# Altium schematic symbol library laihi.SchLib: 296 symbols (part 2 of 3)
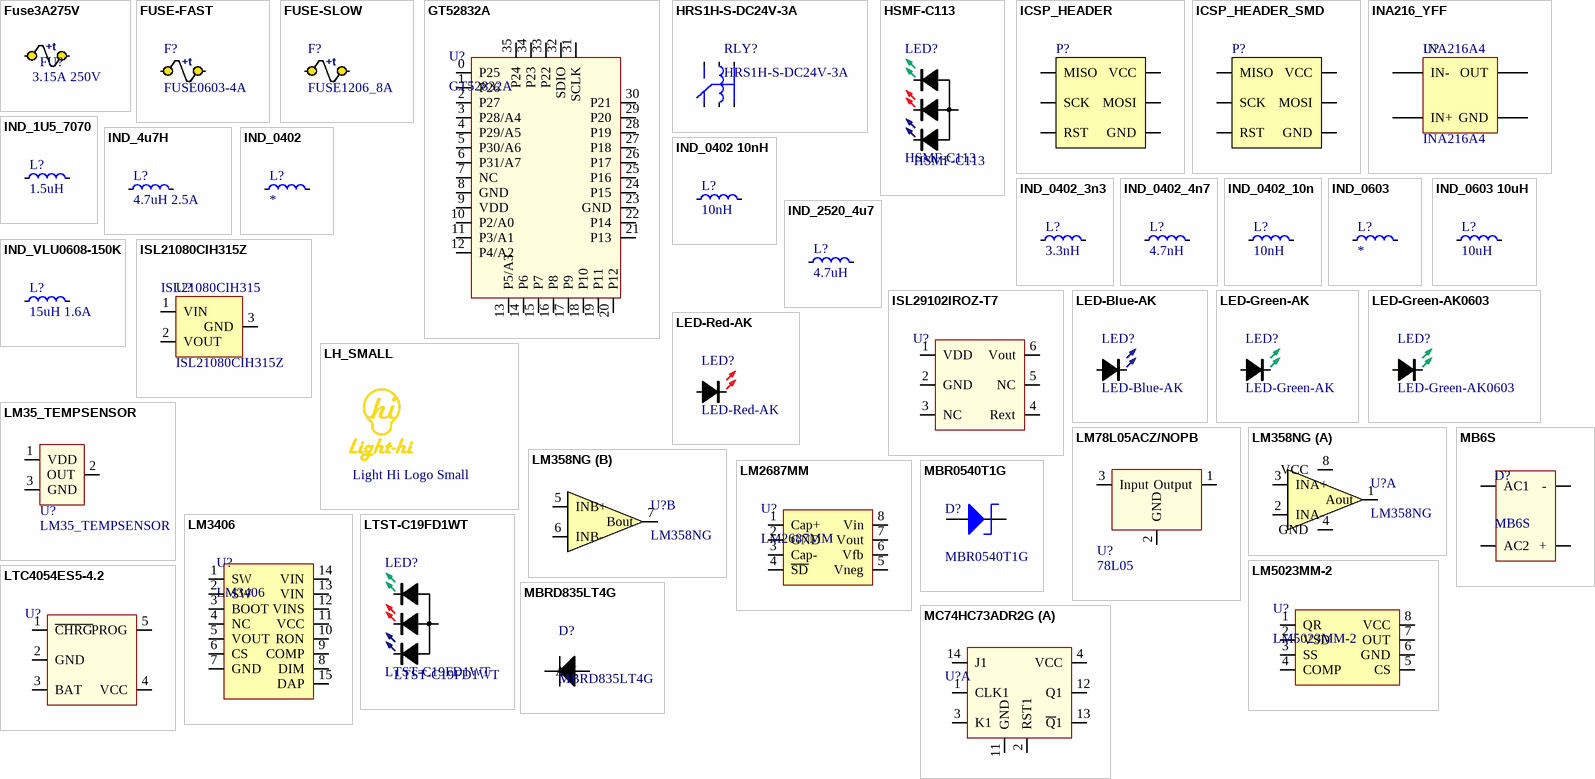
[diagram p8: symbols Fuse3A275V to MC74HC73ADR2G]

## IND_0603 10uH
designator L?, comment 10uH
Chip Ind 0603; Part Number: L0603-10祙ISHIDDEN=T; Manufacturer: Taiyo Yuden; Manufacturer Part Number: LBMF1608T100K; 2nd source part number: 178-6105; Note: LBMF1608T100K 10礖 80mA 0603; Artikkelnr Noca: 33029314; Datasheet: http://www.yuden.co.jp/ut/product/pdf/elb2_e.pdf; Footprint: 0603; LatestRevisionDate: 2011-12-06; Pin Count: 2; Publisher: Nordic Semiconductor; Published: 2010-02-24; Supplier: Digi-Key; Supplier part number: 587-1714-1-ND; 2nd source Supplier: Farnell; Value: 10uH
footprint 0603-STX (STX)
pins: 1, 2

## IND_2520_4u7
designator L?, comment 4.7uH
Chip Ind 252012 ,180mOhm, 750mA; Part Number: MPH252012S4R7MT; Manufacturer: Sunlord; Manufacturer Part Number: MPH252012S4R7MT; Footprint: 252012; Pin Count: 2; Note: 180mOhm, 750mA; Supplier: LC; Supplier_PN: C90256; Value: 4.7uH
footprint IND_252012 (Molded Inductor, 2-Leads, Body 2.50x2.10mm, IPC Medium Density)
pins: 1, 2

## IND_VLU0608-150K
designator L?, comment 15uH 1.6A
工字电感 6*8mm 75mOhm 1.6A; Manufacturer: FH; Manufacturer Part Number: VLU0608-150K; Part Number: *; Pin Count: 2; Note: *; Supplier: LC; Supplier part number: C72627; Value: 15uH 1.6A
footprint WE-HC4 (Inductor, Shielded Drum Core, Superflux, 1.5 μH, 11 A,  0.0078 ohm, SMD)
pins: 1, 2

## ISL21080CIH315Z
designator U?  Part Number: ISL21080CIH315
IC VREF SERIES 1.5V SOT23-3; Manufacturer: Intersil; Manufacturer No: ISL21080CIH315Z-TK; Rating: COM; Supplier: Digi-Key; Supplier_PN: ISL21080CIH315Z-TKCT-ND; ComponentLink1URL: #http://www.intersil.com/content/dam/Intersil/documents/fn69/fn6934.pdf#; PartType: SM; ROHS: True; Pin Count: 3; Component Kind: Standard
footprint SOT23-3 (STX)
3D model SOT23
pins: 1 VIN (power), 2 VOUT (power), 3 GND (power)

## ISL29102IROZ-T7
designator U?, comment ISL29102  (value not drawn)
Intersil Low Power Ambient Light-to-Voltage; Manufacturer No: ISL29102IROZ-T7; Value: ISL29102IROZ-T7; Manufacturer: Intersil; Pins: 6; Supplier: 深圳蓝伯特电子有限公司; Supplier_PN: ISL29102IROZ-T7; SuppliersPartNumber: ISL29102IROZ-T7
footprint ODFN-6
pins: 1 VDD, 2 GND, 3 NC, 4 Rext, 5 NC, 6 Vout

## LED-Blue-AK
designator LED?
OPTO LED Blue (Clear) 150mcd 470nm 120-deg Vf:3V2 If:20mA 2.3mmx0.8mm 0603; Manufacturer: Wurth Electronics Inc; Manufacturer No: 150060BS75000; Supplier: Digikey; Supplier_PN: 732-4966-1-ND; PartType: SM; Pin Count: 2
footprint 0603-LED (STX)
pins: A, K

## LED-Green-AK
designator LED?
OPTO LED GREEN (Clear) 45mcd 573nm 120-deg Vf:2V0 If:25mA 1mmx0.5mm VAOL-S4GT4 0402; Manufacturer: VCC Visual Communications; Notes: 2V; Part Number: VAOL-S4GT4; Manufacturer No: VAOL-S4GT4; Supplier: Digi-Key; Supplier_PN: VAOL-S4GT4CT-ND; PartType: SM; Pin Count: 2
footprint 0402-LED
3D model 0402-LED-GRN
pins: A, K

## LED-Green-AK0603
designator LED?
OPTO LED GREEN (Clear) 45mcd 573nm 120-deg Vf:2V0 If:25mA 1mmx0.5mm VAOL-S4GT4 0402; Manufacturer: VCC Visual Communications; Notes: 2V; Part Number: VAOL-S4GT4; Manufacturer No: VAOL-S4GT4; Supplier: Digi-Key; Supplier_PN: VAOL-S4GT4CT-ND; PartType: SM; Pin Count: 2
footprint 0603-LED (STX)
pins: A, K

## LED-Red-AK
designator LED?
OPTO LED Red (Clear) 180mcd 639nm 120-deg Vf:2V0 If:25mA 2.3mmx0.8mm 0603; Manufacturer: LiteON; Manufacturer No: LTST-C190KRKT; Supplier: Digikey; Supplier_PN: 160-1436-1-ND; PartType: SM; Pin Count: 2
footprint 0603-LED (STX)
pins: A, K

## LH_SMALL
designator LOGO?, comment Light Hi Logo Small  (no BOM)
LH_SMALL; Part Number: Light Hi Logo S; Manufacturer: *; Manufacturer Part Number: *; Datasheet: *; Value: Light Hi Logo Small; Note: *; Supplier: *; Supplier part number: *
footprint LOGO_LIGHTHI

## LM35_TEMPSENSOR
designator U?
Precision Centigrade Temperature Sensors; Manufacturer: TI; Manufacturer No: LM35AH; Pin Count: 3; Supplier: Digikey; Supplier_PN: LM35AH/NOPB-ND
footprint TO-46 (Metal Can; 3 Leads; Can Circle Dia. 5.6 mm; Lead Dia. 0.483 mm (max))
pins: 1 VDD, 2 OUT, 3 GND

## LM78L05ACZ/NOPB
designator U?, comment 78L05
78系列 5V 100mA 线性稳压电源 同LM78L05ACMX 直插; Manufacturer: TI; Manufacturer No: LM78L05ACZ/NOPB; Pin Count: 3; Supplier: LC; Supplier_PN: C95669
footprint TO-92 (Metal Can; 3 Leads; Can Circle Dia. 5.6 mm; Lead Dia. 0.483 mm (max))
pins: 1 Output, 2 GND, 3 Input

## LM358NG
designator U?
Single Supply 3V-32V Dual  Operational Amplifiers; Manufacturer: On Semiconductors; Note: Same as LM324; Manufacturer No: LM358NG; Pins: 8; Supplier: LC; Supplier_PN: C107620; SuppliersPartNumber: C107620
footprint PDIP-8 (PDIP-8 pins 2.54mm pitch)
part A pins: 1 Aout, 2 INA-, 3 INA+, 4 GND, 8 VCC
part B pins: 5 INB+, 6 INB-, 7 Bout

## LM2687MM
designator U?
LM2687 Low Noise Regulated Switched Capacitor Voltage Inverter; Manufacturer: Ti; Manufacturer No: LM2687MM; Supplier: taobao; Supplier_PN: https://detail.tmall.com/item.htm?id=524241036517; Pin Count: 8
footprint MSOP65P490X109-8N (MSOP, 8-Leads, Body 3.00x3.00mm, Pitch 0.65mm, IPC Medium Density)
pins: 1 Cap+, 2 GND, 3 Cap-, 4 ~{SD}, 5 Vneg, 6 Vfb, 7 Vout, 8 Vin

## LM3406
designator U?
LM3406 1.5-A, Constant Current, Buck Regulator for Driving High Power LEDs; Manufacturer No: LM3406HVMHX; Manufacturer: Ti; Supplier: LC; Supplier_PN: C11160; Pin Count: 15
footprint SOP127P600-8N (14-Lead Exposed Pad Plastic TSSOP Package)
pins: 1 SW, 2 SW, 3 BOOT, 4 NC, 5 VOUT, 6 CS, 7 GND, 8 DIM, 9 COMP, 10 RON, 11 VCC, 12 VINS, 13 VIN, 14 VIN, 15 DAP

## LM5023MM-2
designator U?
AC-DC Quasi-Resonant Current Mode PWM Controller; Manufacturer: Ti; Manufacturer No: LM5023MM-2; Supplier: taobao; Pin Count: 8
footprint MSOP65P490X109-8N (MSOP, 8-Leads, Body 3.00x3.00mm, Pitch 0.65mm, IPC Medium Density)
pins: 1 QR, 2 VSD, 3 SS, 4 COMP, 5 CS, 6 GND, 7 OUT, 8 VCC

## LTC4054ES5-4.2
designator U?  (value not drawn)
Standalone Linear  Li-Ion Battery Charger with  Thermal Regulation in ThinSOT; Manufacturer: LinearTechnology; Manufacturer No: LTC4054ES5-4.2; Note: Standalone Linear  Li-Ion Battery Charger with  Thermal Regulation in ThinSOT; Pins: 5; Supplier: Digikey; Supplier_PN: LTC4054LES5-4.2#TRPBFTR-ND; SuppliersPartNumber: LTC4054LES5-4.2#TRPBFTR-ND
footprint SOT23-5
pins: 1 ~{CHRG}, 2 GND, 3 BAT, 4 VCC, 5 PROG

## LTST-C19FD1WT
designator LED?
三色 LED TriColor RGB LED CHIP SMD; Manufacturer: Lite ON; Rating: IND; Manufacturer No: LTST-C19FD1WT; Supplier: Digi-Key; Supplier_PN: 160-2022-1-ND; PartType: SM; ROHS: True; Pin Count: 4; Part Number: LTST-C19FD1WT
footprint LTST-C19FD1WT (Lite-on tricolor LED)
3D model HSMF-C11X
pins: A, KB, KG, KR

## MB6S
designator D?
Bridge DIODE 600V  500mA 1V@0.4A; Manufacturer: MCC; Manufacturer No: MB6S; Supplier: LC; Supplier_PN: C2487; PartType: SM; Pin Count: 4; MaxRating: 600V
footprint MBS (BESOP, 4-Leads, Body 4.75x3.90mm, Pitch 2.55mm, IPC Medium Density)
pins: 1 AC1, 2 AC2, 3 +, 4 -

## MBR0540T1G
designator D?
Diode SOD−123 Power SMT 0.5 AMPERES, 40 VOLTS; Manufacturer: ON Semiconductor; MaxRating: 40V; Supplier: Digi-Key; Supplier_PN: MBR0540T1GOSCT-ND; Manufacturer No: MBR0540T1G
simulation model ZENER (Diode)
signal-integrity model D Zener
footprint SOD123-DIODE-Schottky (SODFL, 2-Leads, Body 1.70x3.71mm, IPC Medium Density)
pins: 1 A, 2 K

## MBRD835LT4G
designator D?
DIODE SCHOTTKY 35V 0.5V@8A; Manufacturer: On Semi; Part Number: MBRD835LT4G; Manufacturer No: MBRD835LT4G; Supplier: LC; Supplier_PN: C28423; PartType: SM; Pin Count: 3; MaxRating: 35V; SuppliersPartNumber: C28423
footprint DPAK-3N-L78M05 (D-PAK, 3-Pads, Body 6.2x6.6mm (max), IPC Medium Density)
pins: 1 A, 2 K, 3 A

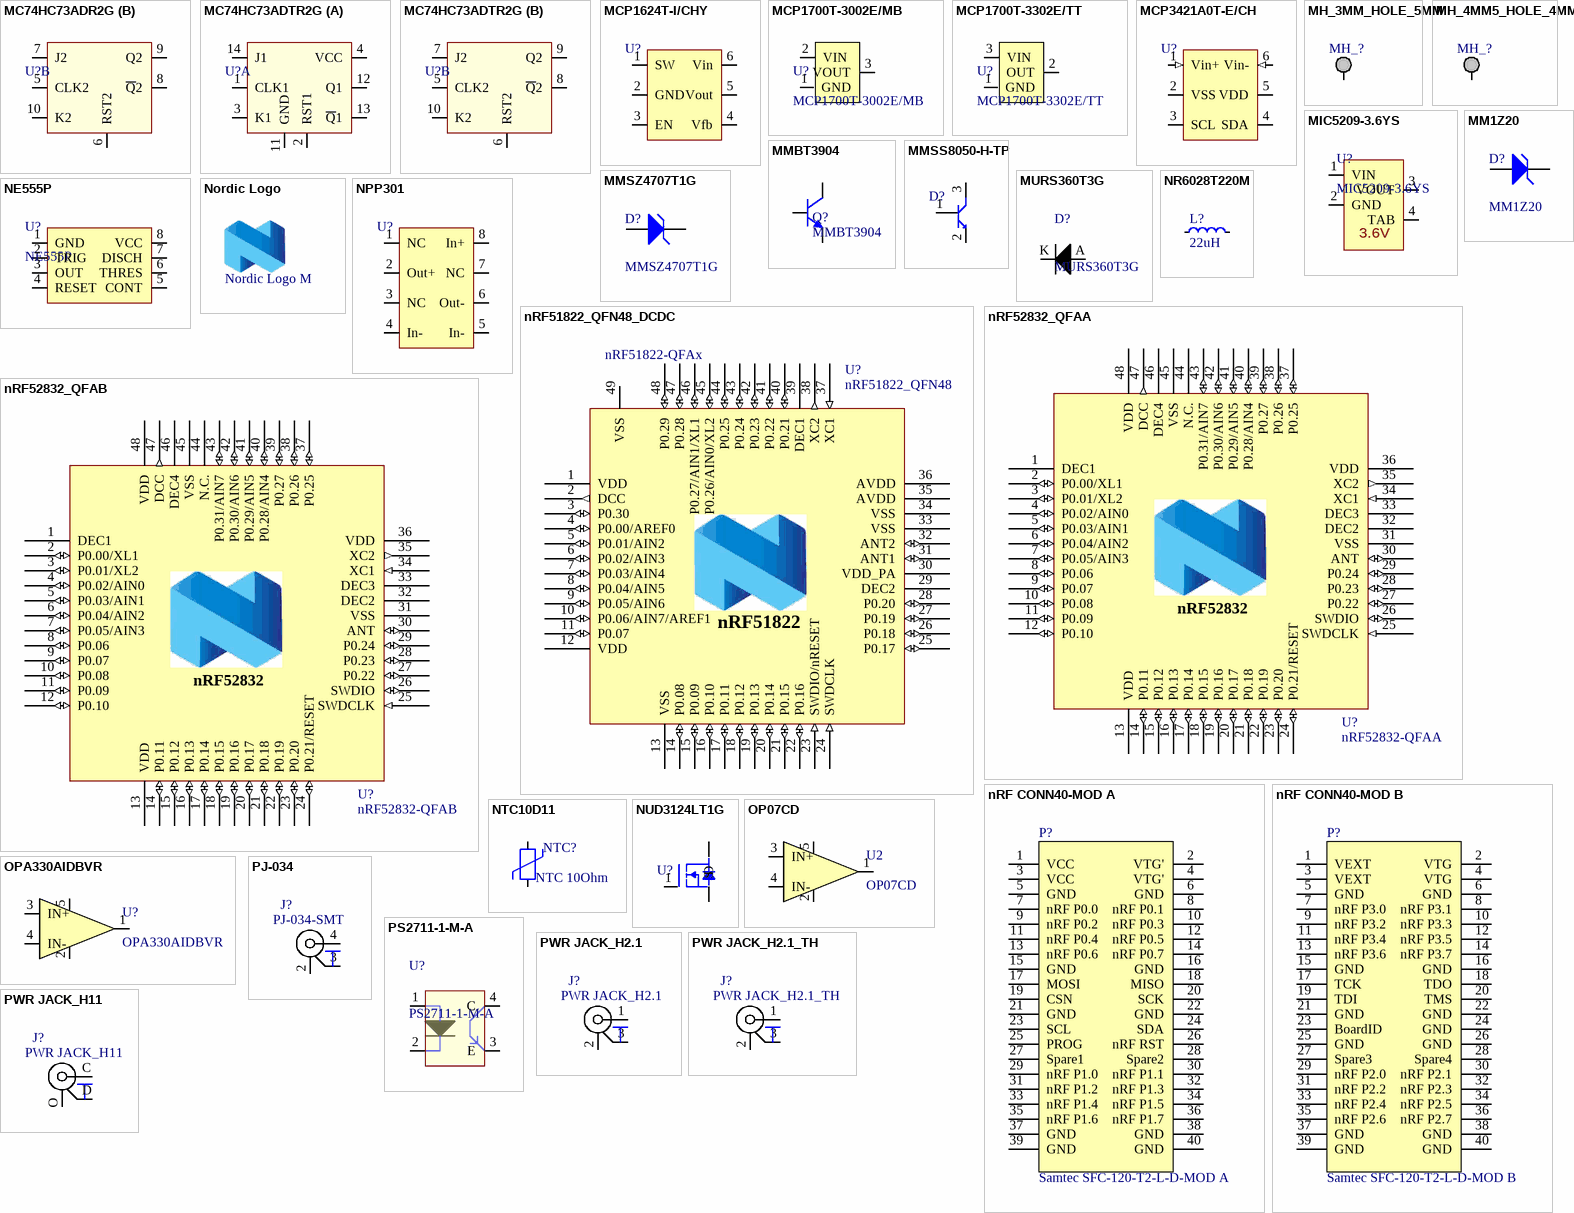
[diagram p4: symbols MC74HC73ADR2G to PWR JACK_H11]

## MC74HC73ADR2G
designator U?, comment MC74HC73A  (value not drawn)
Dual JK FlipFlop with Reset on Falling edge; Manufacturer: ON Semi; Manufacturer No: MC74HC73ADR2G; Note: Dual JK FlipFlop with Reset on Falling edge; Pins: 14; Supplier: LC; Supplier_PN: C90061; SuppliersPartNumber: C90061
footprint SOIC_14_127P600X135 (SOIC, 14-Leads, Body 8.65x3.90mm, Pitch 1.27mm, IPC Medium Density)
part A pins: 1 CLK1, 2 RST1, 3 K1, 4 VCC, 11 GND, 12 Q1, 13 ~{Q}1, 14 J1
part B pins: 5 CLK2, 6 RST2, 7 J2, 8 ~{Q}2, 9 Q2, 10 K2

## MC74HC73ADTR2G
designator U?  (value not drawn)
Dual JK FlipFlop with Reset on Falling edge; Manufacturer: ON Semi; Manufacturer No: MC74HC73ADTR2G; Note: Dual JK FlipFlop with Reset on Falling edge; Pins: 14; Supplier: LC; Supplier_PN: C90061; SuppliersPartNumber: C90061
footprint TSSOP14_65P640X120 (TSSOP, 14-Leads, Body 5.00x4.40mm, Pitch 0.65mm, IPC Medium Density)
part A pins: 1 CLK1, 2 RST1, 3 K1, 4 VCC, 11 GND, 12 Q1, 13 ~{Q}1, 14 J1
part B pins: 5 CLK2, 6 RST2, 7 J2, 8 ~{Q}2, 9 Q2, 10 K2

## MCP1624T-I/CHY
designator U?  (value not drawn)
3V to 5V Input Boost Regulator  for PIC® Microcontrollers; Manufacturer: Microchip; SuppliersPartNumber: C128443; Supplier: LC; Supplier_PN: C128443; Manufacturer No: MCP1624T-I/CHY
footprint SOT23-6 (TSOP, 6-Leads, Body 2.90x1.60mm, Pitch 0.95mm, IPC Medium Density)
pins: 1 SW, 2 GND, 3 EN (io), 4 Vfb, 5 Vout, 6 Vin

## MCP1700T-3002E/MB
designator U?
1.6uA Low Quiescent Current, 6Vin LDO 3.3V output; Manufacturer: MicroChip; Note: SoT-89 1.6uA Low Quenscent Current LDO; Manufacturer No: MCP1700T-3002E/MB; Pins: 3; Supplier: LC; Supplier_PN: C57883
footprint SOT89 (SOT89, 3-Leads, Body 4.50x2.45mm, Pitch 1.50mm, Lead Span 3.9mm, IPC Medium Density)
pins: 1 GND, 2 VIN, 3 VOUT

## MCP1700T-3302E/TT
designator U?
1.6uA Low Quiescent Current, 6Vin LDO 3.3V output; Manufacturer: MicroChip; Note: 1.6uA Low Quenscent Current LDO; Manufacturer No: MCP1700T-3302E/TT; Pins: 3; Supplier: LC; Supplier_PN: C39051
footprint SOT23-3 (STX)
pins: 1 GND, 2 OUT, 3 VIN

## MCP3421A0T-E/CH
designator U?  (value not drawn)
18-Bit Analog-to-Digital Converter  with I2C Interface and On-Board Reference; Manufacturer: Microchip; SuppliersPartNumber: C29454; Supplier: LC; Supplier_PN: C29454; Manufacturer No: MCP3421A0T-E/CH
footprint SOT23-6 (TSOP, 6-Leads, Body 2.90x1.60mm, Pitch 0.95mm, IPC Medium Density)
pins: 1 Vin+ (in), 2 VSS, 3 SCL (io), 4 SDA (io), 5 VDD, 6 Vin- (in)

## MH_3MM_HOLE_5MM
designator MH_?  (value not drawn)
PHANTOM Mounting Hole Annulus Dia_5mm Hole_3mm TH; Manufacturer No: 板自带; Manufacturer: 空; Note: 板自带，无需焊接; Part Number: MH_3MM_HOLE_5MM; PartType: PHANTOM; ROHS: True; Pin Count: 1; Supplier: 板自带
footprint MH_3MMHOLE_5M
3D model phantom_part
pins: 1

## MH_4MM5_HOLE_4MM
designator MH_?  (value not drawn)
PHANTOM Mounting Hole Annulus Dia_4.5mm Hole_4mm TH; Part Number: MH_2MM5_HOLE_2MM; Manufacturer No: 板自带，Phantom; Manufacturer: 板自带; Note: 无需焊接; PartType: PHANTOM; ROHS: True; Pin Count: 1
footprint MH_4MMHOLE_6M5
3D model phantom_part
pins: 1

## MIC5209-3.6YS
designator U?
IC REG LDO 3.6V 0.5A SOT223; Supplier_PN: 576-2371-ND
footprint SOT230P700X180-4N (SOT223, 4-Leads, Body 6.50x7.00mm (avg), Pitch 2.30mm, IPC Medium Density)
pins: 1 VIN, 2 GND, 3 VOUT, 4 TAB
text: 3.6V

## MM1Z20
designator D?
Zener Diode; Manufacturer: ST 先科; Value: 20V 0.5W; Manufacturer Part Number: MM1Z20; Supplier: LC; SuppliersPartNumber: C107583
simulation model ZENER (Diode)
signal-integrity model D Zener
footprint SOD123-DIODE-Schottky (SODFL, 2-Leads, Body 1.70x3.71mm, IPC Medium Density)
pins: 1 A, 2 K

## MMBT3904
designator Q?
NPN General Purpose Amplifier 2N3904; Supplier_PN: 568-4510-2-ND
footprint SOT23-3 (STX)
simulation model 2N3904 (NPN)
signal-integrity model 2N3904
pins: 1 B, 2 E, 3 C

## MMSS8050-H-TP
designator D?  (value not drawn)
Bipolar (BJT) Transistor NPN 25V 1.5A 100MHz 625mW Surface Mount SOT-23; Manufacturer: Micro Commercial; Manufacturer No: MMSS8050-H-TP; Note: Bipolar (BJT) Transistor NPN 25V 1.5A 100MHz 625mW Surface Mount SOT-23; Pins: 3; Supplier: LC; Supplier_PN: C78092
footprint SOT23-3 (STX)
pins: 1 G, 2 S, 3 D

## MMSZ4707T1G
designator D?
Zener Diode; Manufacturer: On Semiconduct; Manufacturer Part Number: MMSZ4707T1G; Supplier: LC; SuppliersPartNumber: C36797
simulation model ZENER (Diode)
signal-integrity model D Zener
footprint SOD123-DIODE-Schottky (SODFL, 2-Leads, Body 1.70x3.71mm, IPC Medium Density)
pins: 1 A, 2 K

## MURS360T3G
designator D?
DIODE ultra fast power rectifier 50ns 1V@3A 600V; Manufacturer: On Semi; Manufacturer No: MURS360T3G; Supplier: LC; Supplier_PN: C49304; PartType: SM; ROHS: True; Pin Count: 2; MaxRating: 600V
footprint SMC-DIODE
pins: A, K

## NE555P
designator U?
xx555 Precision Timers 4.5V to 16V; Manufacturer: Ti; Manufacturer No: NE555P; Supplier: LC; Supplier_PN: C46749; Pin Count: 8
footprint PDIP-8 (PDIP-8 pins 2.54mm pitch)
pins: 1 GND, 2 TRIG, 3 OUT, 4 RESET, 5 CONT, 6 THRES, 7 DISCH, 8 VCC

## Nordic Logo
designator LOGO?, comment Nordic Logo M  (no BOM)
Nordic Logo, medium size; Artikkelnr Noca: N.A.; Part Number: Nordic Logo M; Manufacturer: *; Manufacturer Part Number: *; Datasheet: *; Footprint: NORDIC_LOGO_M; LatestRevisionDate: 2010-02-18; Pin Count: 2; Publisher: Nordic Semiconductor; Published: 2010-02-18; Value: Nordic Logo M; Note: *; Supplier: *; Supplier part number: *; 2nd source Supplier: *; 2nd source part number: *
footprint NORDIC_LOGO_M

## NPP301
designator U?, comment NPP301-100/200/700  (value not drawn)
NovaSensor Surface Mount Pressure sensor absolute 100/200/700 kPa; Manufacturer: Amphenol Advanced Sensors; SuppliersPartNumber: 235-1287-ND; Supplier: Digi-key; Supplier_PN: 235-1287-ND; Manufacturer No: NPP301-100/200/700
footprint SOIC8_ATMEL_8S2_8S1 (SOIC, 8-Leads, Body 5.25x5.30mm, Pitch 1.27mm, IPC Medium Density)
pins: 1 NC, 2 Out+, 3 NC, 4 In-, 5 In-, 6 Out-, 7 NC, 8 In+

## NR6028T220M
designator L?, comment 22uH
IND SMD Power Inductors 22uH 1.3A; Manufacturer: Taiyo Yuden; Manufacturer Part Number: NR6028T220M; Pin Count: 2; Supplier: Digi-Key; Supplier part number: 587-2103-1-ND; Value: 22uH
footprint NR6028T220M (SMD power inductor NR series TAIYO YUDEN)
pins: 1, 2

## nRF51822_QFN48_DCDC
designator U?, comment nRF51822_QFN48  value nRF51822-QFAx
IC SOC 2.4GHZ 256K FLASH 48QFN Multi-protocol Bluetooth Low Energy and 2.4GHz proprietary SoC; Part Number: NRF51822-QFAA-R7; Manufacturer: Nordic Semiconductor ASA; Note: nRF51822 - QFN48 6x6 0.4mm pitch; Datasheet: *; Footprint: QFN-48; Pin Count: 48; Publisher: Nordic Semiconductor; Supplier: Digi-Key; Manufacturer No: NRF51822-QFAA-R7; Supplier_PN: 1490-1031-1-ND; PartType: SM
footprint QFN40P600X600X90-48N (QFN, 48-Leads, Body 6,0x6,0mm (max), Pitch 0,40mm, IPC Medium Density)
pins: 1 VDD (power), 2 DCC (out), 3 P0.30 (io), 4 P0.00/AREF0 (io), 5 P0.01/AIN2 (io), 6 P0.02/AIN3 (io), 7 P0.03/AIN4 (io), 8 P0.04/AIN5 (io), 9 P0.05/AIN6 (io), 10 P0.06/AIN7/AREF1 (io), 11 P0.07 (io), 12 VDD (power), 13 VSS (power), 14 P0.08 (io), 15 P0.09 (io), 16 P0.10 (io), 17 P0.11 (io), 18 P0.12 (io), 19 P0.13 (io), 20 P0.14 (io), 21 P0.15 (io), 22 P0.16 (io), 23 SWDIO/nRESET (in), 24 SWDCLK (in), 25 P0.17 (io), 26 P0.18 (io), 27 P0.19 (io), 28 P0.20 (io), 29 DEC2 (power), 30 VDD_PA (power), 31 ANT1 (io), 32 ANT2 (io), 33 VSS (power), 34 VSS (power), 35 AVDD (power), 36 AVDD (power), 37 XC1 (in), 38 XC2 (out), 39 DEC1 (power), 40 P0.21 (io), 41 P0.22 (io), 42 P0.23 (io), 43 P0.24 (io), 44 P0.25 (io), 45 P0.26/AIN0/XL2 (io), 46 P0.27/AIN1/XL1 (io), 47 P0.28 (io), 48 P0.29 (io), 49 (power) hidden to GND, 49 VSS
text: nRF51822

## nRF52832_QFAA
designator U?, comment nRF52832-QFAA
Multi-protocol Bluetooth Low Energy, ANT and 2.4GHz proprietary system-on-chip; Manufacturer: Nordic Semiconductor; Part Number: nRF52832-QFAA; Manufacturer No: nRF52832-QFAA; Pin Count: 48; Publisher: Nordic Semiconductor; Published: 2014-11-26; Value: nRF52832-QFAA; Note: *; Supplier: Digikey; Supplier_PN: 1490-1052-2-ND; Footprint: QFN-48
footprint QFN40P600X600X90-48N
pins: 1 DEC1 (power), 2 P0.00/XL1 (io), 3 P0.01/XL2 (io), 4 P0.02/AIN0 (io), 5 P0.03/AIN1 (io), 6 P0.04/AIN2 (io), 7 P0.05/AIN3 (io), 8 P0.06 (io), 9 P0.07 (io), 10 P0.08 (io), 11 P0.09 (io), 12 P0.10 (io), 13 VDD (power), 14 P0.11 (io), 15 P0.12 (io), 16 P0.13 (io), 17 P0.14 (io), 18 P0.15 (io), 19 P0.16 (io), 20 P0.17 (io), 21 P0.18 (io), 22 P0.19 (io), 23 P0.20 (io), 24 P0.21/RESET (io), 25 SWDCLK (in), 26 SWDIO (io), 27 P0.22 (io), 28 P0.23 (io), 29 P0.24 (io), 30 ANT (io), 31 VSS (power), 32 DEC2 (power), 33 DEC3 (power), 34 XC1 (in), 35 XC2 (out), 36 VDD (power), 37 P0.25 (io), 38 P0.26 (io), 39 P0.27 (io), 40 P0.28/AIN4 (io), 41 P0.29/AIN5 (io), 42 P0.30/AIN6 (io), 43 P0.31/AIN7 (io), 44 N.C. (power), 45 VSS (power), 46 DEC4 (power), 47 DCC (out), 48 VDD (power), 49 GND (power) hidden to GND
text: nRF52832

## nRF52832_QFAB
designator U?, comment nRF52832-QFAB
Multi-protocol Bluetooth Low Energy, ANT and 2.4GHz proprietary system-on-chip; Manufacturer: Nordic Semiconductor; Part Number: nRF52832-QFAB; Manufacturer No: nRF52832-QFAB; LatestRevisionDate: 2016-11-24; Pin Count: 48; Publisher: Nordic Semiconductor; Published: 2016-11-24; Value: nRF52832-QFAB; Note: *; Supplier: Nordic Semiconductor; Supplier_PN: 1490-1055-2-ND; Footprint: QFN-48
footprint QFN40P600X600X90-48N (QFN, 48-Leads, Body 6,0x6,0mm (max), Pitch 0,40mm, IPC Medium Density)
pins: 1 DEC1 (power), 2 P0.00/XL1 (io), 3 P0.01/XL2 (io), 4 P0.02/AIN0 (io), 5 P0.03/AIN1 (io), 6 P0.04/AIN2 (io), 7 P0.05/AIN3 (io), 8 P0.06 (io), 9 P0.07 (io), 10 P0.08 (io), 11 P0.09 (io), 12 P0.10 (io), 13 VDD (power), 14 P0.11 (io), 15 P0.12 (io), 16 P0.13 (io), 17 P0.14 (io), 18 P0.15 (io), 19 P0.16 (io), 20 P0.17 (io), 21 P0.18 (io), 22 P0.19 (io), 23 P0.20 (io), 24 P0.21/RESET (io), 25 SWDCLK (in), 26 SWDIO (io), 27 P0.22 (io), 28 P0.23 (io), 29 P0.24 (io), 30 ANT (io), 31 VSS (power), 32 DEC2 (power), 33 DEC3 (power), 34 XC1 (in), 35 XC2 (out), 36 VDD (power), 37 P0.25 (io), 38 P0.26 (io), 39 P0.27 (io), 40 P0.28/AIN4 (io), 41 P0.29/AIN5 (io), 42 P0.30/AIN6 (io), 43 P0.31/AIN7 (io), 44 N.C. (power), 45 VSS (power), 46 DEC4 (power), 47 DCC (out), 48 VDD (power), 49 GND (power) hidden to GND
text: nRF52832

## nRF CONN40-MOD A
designator P?, comment Samtec SFC-120-T2-L-D-MOD A
1.27mm Pitch DIL Vertical SMT Socket Assembly, location pegs, double polarised, gold, 20+20-way; Note: Mates with nRF6310; Artikkelnr Noca: 55019100; Value: Samtec SFC-120-T2-L-D-MOD A; Part Number: Samtec SFC-120-T2-L-D-MOD A; Manufacturer: Samtec; Manufacturer Part Number: SFC-120-T2-L-D; Datasheet: http://www.samtec.com/documents/webfiles/cpdf/Sfc-mkt.pdf; Footprint: Samtec SFC-120-T2-L-D; LatestRevisionDate: 2010-02-26; Publisher: Nordic Semiconductor; Published: 2010-02-26; Supplier: Farnell; Supplier part number: 176-3459; 2nd source Supplier: *; 2nd source part number: *
footprint Samtec SFC-120-T2-L-D
pins: 1 VCC, 2 VTG', 3 VCC, 4 VTG', 5 GND, 6 GND, 7 nRF P0.0, 8 nRF P0.1, 9 nRF P0.2, 10 nRF P0.3, 11 nRF P0.4, 12 nRF P0.5, 13 nRF P0.6, 14 nRF P0.7, 15 GND, 16 GND, 17 MOSI, 18 MISO, 19 CSN, 20 SCK, 21 GND, 22 GND, 23 SCL, 24 SDA, 25 PROG, 26 nRF RST, 27 Spare1, 28 Spare2, 29 nRF P1.0, 30 nRF P1.1, 31 nRF P1.2, 32 nRF P1.3, 33 nRF P1.4, 34 nRF P1.5, 35 nRF P1.6, 36 nRF P1.7, 37 GND, 38 GND, 39 GND, 40 GND

## nRF CONN40-MOD B
designator P?, comment Samtec SFC-120-T2-L-D-MOD B
1.27mm Pitch DIL Vertical SMT Socket Assembly, location pegs, double polarised, gold, 20+20-way; Note: Mates with nRF6310; Artikkelnr Noca: 55019100; Value: Samtec SFC-120-T2-L-D-MOD B; Part Number: Samtec SFC-120-T2-L-D-MOD B; Manufacturer: Samtec; Manufacturer Part Number: SFC-120-T2-L-D; Datasheet: http://www.samtec.com/documents/webfiles/cpdf/Sfc-mkt.pdf; Footprint: Samtec SFC-120-T2-L-D; LatestRevisionDate: 2010-02-26; Publisher: Nordic Semiconductor; Published: 2010-02-26; Supplier: Farnell; Supplier part number: 176-3459; 2nd source Supplier: *; 2nd source part number: *
footprint Samtec SFC-120-T2-L-D
pins: 1 VEXT, 2 VTG, 3 VEXT, 4 VTG, 5 GND, 6 GND, 7 nRF P3.0, 8 nRF P3.1, 9 nRF P3.2, 10 nRF P3.3, 11 nRF P3.4, 12 nRF P3.5, 13 nRF P3.6, 14 nRF P3.7, 15 GND, 16 GND, 17 TCK, 18 TDO, 19 TDI, 20 TMS, 21 GND, 22 GND, 23 BoardID, 24 GND, 25 GND, 26 GND, 27 Spare3, 28 Spare4, 29 nRF P2.0, 30 nRF P2.1, 31 nRF P2.2, 32 nRF P2.3, 33 nRF P2.4, 34 nRF P2.5, 35 nRF P2.6, 36 nRF P2.7, 37 GND, 38 GND, 39 GND, 40 GND

## NTC10D11
designator NTC?  value NTC 10Ohm  (hidden comment: NTC10D11)
NTC电阻 10Ohm 3A; Part Number: C72682; Manufacturer: LC; MaxRating: 240Vac; Supplier: LC; Supplier_PN: C72682; Pin Count: 2; Manufacturer No: C72682; PartType: TH
footprint NTC10D11 (NTC resistor 13mm x 7.5mm 3A)
pins: 1, 2

## NUD3124LT1G
designator U?  (value not drawn)
Automotive Inductive Load  Driver; Manufacturer: ONsemi; Manufacturer No: NUD3124LT1G; Pins: 3; Supplier: LC; Supplier_PN: C85758
footprint SOT23-3 (STX)
pins: 1 G, 2 S, 3 D

## OP07CD
designator U2
通用运放/OP07CD; Manufacturer: TI; Manufacturer No: OPA330AIDBVR; Note: Unity gain stable; Pins: 5; Supplier: LC; Supplier_PN: C354130; SuppliersPartNumber: C354130; ComponentLink1URL: https://item.szlcsc.com/329833.html
footprint SO8-STX
pins: 1, 2, 3 IN+, 4 IN-, 5

## OPA330AIDBVR
designator U?
OpAmp, Zero Drift, 1.8V to 5.5V supply 35uA Iq, 1.1uVpp noise, RR output; Manufacturer: TI; Note: Unity gain stable; Manufacturer No: OPA330AIDBVR; Pins: 5; Supplier: LC; Supplier_PN: C38649; SuppliersPartNumber: C38649
footprint SOT23-5
pins: 1, 2, 3 IN+, 4 IN-, 5

## PJ-034
designator J?, comment PJ-034-SMT
I/F POWER CONN PWR JACK 2.5D CENTRE PIN RA PCB MTG TH; Part Number: PJ-034-SMT-TR; Manufacturer: CUI inc; Rating: 16V; Supplier: Digikey; Supplier_PN: PJ-034-SMT-TR; ROHS: True; Pin Count: 3; Manufacturer No: PJ-034-SMT-TR
footprint PJ-034-SMT (PWR JACK 24V SMT 0.65mm center pin 2.8mm hole)
pins: 2, 3, 4

## PS2711-1-M-A
designator U?
OPTOISOLATOR 3.75KV TRANS 4SMD; Manufacturer: CEL; MaxRating: 3750V; Part Number: PS2711-1-M-A; Manufacturer No: PS2711-1-M-A; Supplier: taobao; PartType: SM; Pin Count: 2
footprint 4-SOP optocoupler (NEC2711)
3D model SMA-DIODE
pins: 1 A, 2 K, 3 E, 4 C

## PWR JACK_H2.1
designator J?
I/F POWER CONN PWR JACK 2.5D CENTRE PIN RA PCB MTG TH; Manufacturer: CUI inc; Rating: 5A; Qualified: False; Part Number: PWR JACK_H2.1; Supplier: Digikey; Supplier_PN: CP-002AHPJCT-ND; Obsolete: False; ROHS: False; Pin Count: 3
footprint PJ-002AH-SMT (PWR JACK 5A 16V SMT)
pins: 1, 2, 3

## PWR JACK_H2.1_TH
designator J?
Through Hole POWER CONN PWR JACK 2.5D CENTRE PIN RA PCB MTG TH; Manufacturer: CUI inc; Rating: 5A; Qualified: False; Part Number: PWR JACK_H2.1; Supplier: Digikey; Obsolete: False; ROHS: False; Pin Count: 3; Supplier_PN: CP-012A-ND
footprint PJ-012A-TH (PWR JACK 5A 16V Through Hole)
pins: 1, 2, 3

## PWR JACK_H11
designator J?
POWER CONN PWR JACK 5D 2.0mm CENTRE TH; Part Number: PWR JACK_H2.1; Manufacturer: CUI inc; Rating: 5A; Qualified: False; Supplier: Digikey; Supplier_PN: CP-002AHPJCT-ND; Obsolete: False; ROHS: False; Pin Count: 3
footprint Jack-2mmCore-5mm (5mm outer 2mm inner core jack)
pins: C 1, D 3, O 2

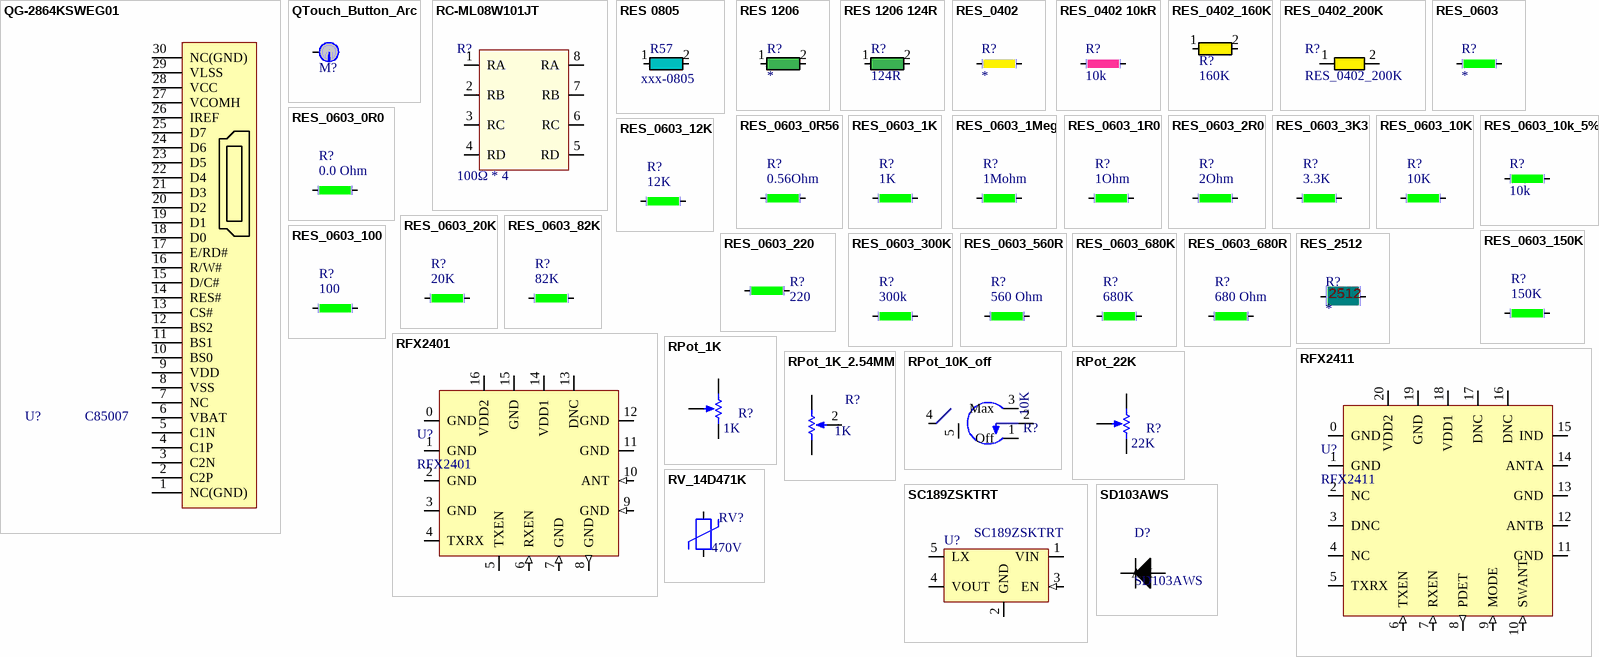
[diagram p5: symbols QG-2864KSWEG01 to SD103AWS]

## QG-2864KSWEG01
designator U?, comment C85007
OLED显示模块/0.96” 128x64 150cd/m2; Manufacturer: LC; Part Number: C85007; Supplier: LC; Supplier_PN: C85007; Pin Count: 30; Manufacturer No: C85007; PartType: SM
footprint OLED-QG-2864 (QG-2864KSWEG01 AllVision 30pin connection)
pins: 1 NC(GND), 2 C2P, 3 C2N, 4 C1P, 5 C1N, 6 VBAT, 7 NC, 8 VSS, 9 VDD, 10 BS0, 11 BS1, 12 BS2, 13 CS#, 14 RES#, 15 D/C#, 16 R/W#, 17 E/RD#, 18 D0, 19 D1, 20 D2, 21 D3, 22 D4, 23 D5, 24 D6, 25 D7, 26 IREF, 27 VCOMH, 28 VCC, 29 VLSS, 30 NC(GND)

## QTouch_Button_Arc
designator M?, comment TBtn  (value not drawn)  (net tie, no BOM)
Touch Button; Part Number: Touch BUtton; Manufacturer: N/A; Manufacturer No: N/A; Pin Count: 1; Value: TBtn; Supplier: PCB; Supplier_PN: N/A
footprint TouchButtonArc (Touch button on the edge)
pins: 1

## RC-ML08W101JT
designator R?  value 100Ω * 4  (hidden comment: RC-ML08W101JT)
100Ω *4 (103) ±5% 编带 0603排阻; Manufacturer: FH; Manufacturer No: RC-ML08W101JT; Note: 100Ω *4 (103) ±5% 编带 0603排阻; Pins: 8; Supplier: LC; Supplier_PN: C79203; SuppliersPartNumber: C79203
footprint ARRAY0603-80P319X159-8N (Chip Array, Flat, 8-Leads, Pitch 0.80mm,  Body 3.20x1.60mm,  IPC Medium Density)
pins: 1 RA, 2 RB, 3 RC, 4 RD, 5 RD, 6 RC, 7 RB, 8 RA

## RES 0805
designator R57, comment xxx-0805
RES Place Holder Phantom Resistor125mW 0805; Part Number: PLACE_HOLD_RES-0805; HRG_PN: 0; Rating: IND; Audit_Details: CLIVE BOYD  SEP-2002; Qualified: False; ComponentLink1Description: Website; ComponentLink2Description: Approvals; PartType: SM; Verified: True; Obsolete: False; ROHS: True; Critical: False; Pin Count: 2; Component Kind: Standard; Component Type: Standard
simulation model RES 0805
signal-integrity model RES 0805
3D model 0805-RES (PCB3D Model)
footprint 0805-STX
3D model RES 0805
pins: 1, 2

## RES 1206
designator R?
RES ?R 250mW  0.1% 25ppm/K; Manufacturer: SMD Components; Rating: IND; MaxRating: 70mW; Part Number: *; Supplier: *; PartType: SM; ROHS: True; Pin Count: 2; Component Kind: Standard; Value: *
signal-integrity model RES 1206
simulation model RES 1206
3D model 1206-RES (PCB3D Model)
footprint 1206-STX (STX)
pins: 1, 2

## RES 1206 124R
designator R?, comment 124R
RES ?R 250mW  0.1% 25ppm/K; Part Number: 180R 0.1% MELF_1206; Manufacturer: SMD Components; Rating: IND; MaxRating: 70mW; Supplier: Digi-Key; Supplier_PN: P124BCCT-ND; PartType: SM; ROHS: True; Pin Count: 2; Component Kind: Standard; Supplier 1: Digi-Key; Supplier Part Number 1: P124BCCT-ND; Value: 124R
signal-integrity model RES 1206
simulation model RES 1206
3D model 1206-RES (PCB3D Model)
footprint 1206-STX (STX)
pins: 1, 2

## RES_0402
designator R?
Resistor, ?%, 0.063W; Note: Chip Res 1%; Manufacturer: *; Manufacturer Part Number: *; Footprint: 0402; Pin Count: 2; Supplier: *; Supplier part number: *; 2nd source Supplier: *; 2nd source part number: *; Value: *
footprint 0402-STX
pins: 1, 2

## RES_0402 10kR
designator R?, comment 10k
Resistor, 0402, 10k; Part Number: R0402-10k; Note: Chip Res 1%; Manufacturer: *; Manufacturer Part Number: *; Datasheet: *; Footprint: 0402; Pin Count: 2; Publisher: Nordic Semiconductor; Supplier: Digi-key; Supplier_PN: 541-10.0KLTR-ND; Value: 10k
footprint 0402-STX
pins: 1, 2

## RES_0402_160K
designator R?, comment 160K
RES 160k 1% 100PPM 42mW 0402; Part Number: 160K_0402; Manufacturer: Panasonic; Manufacturer No: ERJ-2RKF1603X; MaxRating: 0.1W; Supplier: Digikey; Supplier_PN: P160KLCT-ND; PartType: SM; Pin Count: 2; Value: 160K
footprint 0402-STX
3D model 0402-RES
pins: 1, 2

## RES_0402_200K
designator R?
贴片电阻; ComponentLink1Description: 供应商链接; ComponentLink1URL: http://www.szlcsc.com/product/details_26507.html; Package: 0402; Supplier: LC; SuppliersPartNumber: C25764
footprint 0402_R
pins: 1, 2

## RES_0603
designator R?
Resistor, ?%, 0.063W; Note: Chip Res 1%; Manufacturer: *; Manufacturer Part Number: *; Footprint: 0603; Pin Count: 2; Supplier: *; Supplier part number: *; 2nd source Supplier: *; 2nd source part number: *; Value: *
footprint 0603-STX (STX)
pins: 1, 2

## RES_0603_0R0
designator R?, comment 0.0 Ohm
RES SMD 0.0 OHM 1% 1/10W 0603; Manufacturer: Panasonic Electronic Components; Manufacturer No: ERJ-3GEY0R00V; Note: Chip Res 1%; Footprint: 0603; Pin Count: 2; Supplier: Digi-Key; Value: 0.0 Ohm; Supplier_PN: P0.0GTR-ND
footprint 0603-STX (STX)
pins: 1, 2

## RES_0603_0R56
designator R?, comment 0.56Ohm
RES SMD 0.56 OHM 1% 1/10W 0603; Manufacturer: Panasonic Electronic Components; Manufacturer No: ERJ-3RQFR56V; Note: Chip Res 1%; Footprint: 0603; Pin Count: 2; Supplier: Digi-Key; Value: 0.56Ohm; Supplier_PN: P.56AJCT-ND
footprint 0603-STX (STX)
pins: 1, 2

## RES_0603_1K
designator R?, comment 1K
Resistor, 1%, 0.1W, 1K; Manufacturer: Panasonic; Manufacturer No: ERJ-3EKF1001V; Note: Chip Res 1%; Footprint: 0603; Pin Count: 2; Supplier: DigiKey; Value: 1K; Supplier_PN: P1.00KHCT-ND
footprint 0603-STX (STX)
pins: 1, 2

## RES_0603_1Meg
designator R?, comment 1Mohm
Resistor, 1%, 0.1W, 1MOhm; Manufacturer: Yageo; Manufacturer No: AF0603FR-071ML; Note: Chip Res 1%; Footprint: 0603; Pin Count: 2; Supplier: LC; Value: 1Mohm; Supplier_PN: C144090
footprint 0603-STX (STX)
pins: 1, 2

## RES_0603_1R0
designator R?, comment 1Ohm
RES SMD 1 OHM 1% 1/10W 0603; Manufacturer: Panasonic Electronic Components; Manufacturer No: ERJ-3RQF1R0V; Note: Chip Res 1%; Footprint: 0603; Pin Count: 2; Supplier: Digi-Key; Value: 1Ohm; Supplier_PN: P1.0AJCT-ND
footprint 0603-STX (STX)
pins: 1, 2

## RES_0603_2R0
designator R?, comment 2Ohm
RES SMD 2OHM 1% 1/10W 0603; Manufacturer: Panasonic Electronic Components; Manufacturer No: ERJ-3GEYJ2R0V; Note: Chip Res 5%; Footprint: 0603; Pin Count: 2; Supplier: Digi-Key; Value: 2Ohm; Supplier_PN: P2.0GCT-ND
footprint 0603-STX (STX)
pins: 1, 2

## RES_0603_3K3
designator R?, comment 3.3K
Resistor, 1%, 0.1W, 3.3K; Manufacturer: Panasonic; Manufacturer No: ERJ-3EKF3301V; Note: Chip Res 1%; Footprint: 0603; Pin Count: 2; Supplier: DigiKey; Value: 3.3K; Supplier_PN: P3.30KHCT-ND
footprint 0603-STX (STX)
pins: 1, 2

## RES_0603_10K
designator R?, comment 10K
Resistor, 1%, 0.1W, 10K; Manufacturer: Panasonic; Manufacturer No: ERJ-3EKF1002V; Note: Chip Res 1%; Footprint: 0603; Pin Count: 2; Supplier: DigiKey; Value: 10K; Supplier_PN: P10.0KHCT-ND
footprint 0603-STX (STX)
pins: 1, 2

## RES_0603_10k_5%
designator R?, comment 10k
Resistor,5%, 10k, 0603; Part Number: RS-03K103JT; Manufacturer: FH; Note: Chip Res 5%; Manufacturer Part Number: RS-03K103JT; Footprint: 0603; Pin Count: 2; Value: 10k; Supplier_PN: RS-03K103JT; Supplier: LC
footprint 0603-STX (STX)
pins: 1, 2

## RES_0603_12K
designator R?, comment 12K
Resistor, 1%, 0.1W, 12K; Manufacturer: Panasonic; Manufacturer No: ERJ-3EKF1202V; Note: Chip Res 1%; Footprint: 0603; Pin Count: 2; Supplier: DigiKey; Value: 12K; Supplier_PN: P12.0KHCT-ND
footprint 0603-STX (STX)
pins: 1, 2

## RES_0603_20K
designator R?, comment 20K
Resistor, 1%, 0.1W, 20K; Manufacturer: Panasonic; Manufacturer No: ERJ-3EKF2002V; Note: Chip Res 1%; Footprint: 0603; Pin Count: 2; Supplier: DigiKey; Value: 20K; Supplier_PN: P20.0KHCT-ND
footprint 0603-STX (STX)
pins: 1, 2

## RES_0603_82K
designator R?, comment 82K
Resistor, 1%, 0.1W; Manufacturer: Panasonic; Manufacturer No: ERJ-3EKF8202V; Note: Chip Res 1%; Footprint: 0603; Pin Count: 2; Supplier: DigiKey; Value: 82K; Supplier_PN: P82.0KHCT-ND
footprint 0603-STX (STX)
pins: 1, 2

## RES_0603_100
designator R?, comment 100
Resistor, 1%, 0.1W, 100; Manufacturer: Panasonic; Manufacturer No: ERJ-3EKF1000V; Note: Chip Res 1%; Footprint: 0603; Pin Count: 2; Supplier: DigiKey; Value: 100; Supplier_PN: P100HCT-ND
footprint 0603-STX (STX)
pins: 1, 2

## RES_0603_150K
designator R?, comment 150K
Resistor, 1%, 0.1W, 150K; Manufacturer: Panasonic; Manufacturer No: ERJ-3EKF1503V; Note: Chip Res 1%; Footprint: 0603; Pin Count: 2; Supplier: DigiKey; Value: 150K; Supplier_PN: P150KHCT-ND
footprint 0603-STX (STX)
pins: 1, 2

## RES_0603_220
designator R?, comment 220
Resistor, 1%, 0.1W; Manufacturer: Panasonic; Manufacturer No: ERJ-3EKF2200V; Note: Chip Res 1%; Footprint: 0603; Pin Count: 2; Supplier: DigiKey; Value: 220; Supplier_PN: P220HCT-ND
footprint 0603-STX (STX)
pins: 1, 2

## RES_0603_300K
designator R?, comment 300k
Resistor, 1%, 0.1W, 300K; Manufacturer: Yageo; Manufacturer No: RC0603FR-07300KL; Note: Chip Res 1%; Footprint: 0603; Pin Count: 2; Supplier: LC; Value: 300k; Supplier_PN: C114667
footprint 0603-STX (STX)
pins: 1, 2

## RES_0603_560R
designator R?, comment 560 Ohm
RES SMD 560 OHM 1% 1/10W 0603; Manufacturer: Panasonic Electronic Components; Manufacturer No: ERJ-3EKF5600V; Note: Chip Res 1%; Footprint: 0603; Pin Count: 2; Supplier: Digi-Key; Value: 560 Ohm; Supplier_PN: P560HCT-ND
footprint 0603-STX (STX)
pins: 1, 2

## RES_0603_680K
designator R?, comment 680K
Resistor, 1%, 0.1W, 680K; Manufacturer: Panasonic; Manufacturer No: ERJ-3EKF6803V; Note: Chip Res 1%; Footprint: 0603; Pin Count: 2; Supplier: DigiKey; Value: 680K; Supplier_PN: P680KHCT-ND
footprint 0603-STX (STX)
pins: 1, 2

## RES_0603_680R
designator R?, comment 680 Ohm
RES SMD 680 OHM 1% 1/10W 0603; Manufacturer: Panasonic Electronic Components; Manufacturer No: ERJ-3EKF6800V; Note: Chip Res 1%; Footprint: 0603; Pin Count: 2; Supplier: Digi-Key; Value: 680 Ohm; Supplier_PN: P680HCT-ND
footprint 0603-STX (STX)
pins: 1, 2

## RES_2512
designator R?
Resistor, 5%, 1W; Note: Chip Res 5%; Manufacturer: *; Manufacturer Part Number: *; Footprint: 2512; Pin Count: 2; Supplier: *; Supplier part number: *; 2nd source Supplier: *; 2nd source part number: *; Value: *
footprint 2512-RES (Chip Resistor, 2-Leads, Body 6.35x3.20mm, IPC Medium Density)
pins: 1, 2

## RFX2401
designator U?
RFX2401: 2.4 GHz PA without bypass; Manufacturer: Skyworks; Pin Count: 17; Supplier: taobao; Supplier_PN: shop552486705.taobao.com
footprint QFN50P_17Pin_RFX2401 (QFN, 16-Leads, Body 3.00x3.00mm, Pitch 0.50mm, Thermal Pad 1.70x1.70mm, IPC Low Density)
pins: 0 GND, 1 GND, 2 GND, 3 GND, 4 TXRX (io), 5 TXEN, 6 RXEN (in), 7 GND (in), 8 GND (out), 9 GND (in), 10 ANT (in), 11 GND, 12 GND, 13 DNC, 14 VDD1, 15 GND, 16 VDD2

## RFX2411
designator U?
RFX2411: 2.4 GHz PA with bypass and ANT switch; Manufacturer: Skyworks; Pin Count: 21; Supplier: taobao; Supplier_PN: shop552486705.taobao.com
footprint QFN20_RFX2411 (Power Amplifier RFX2411 with bypass PA and LNA)
pins: 0 GND, 1 GND, 2 NC, 3 DNC, 4 NC (io), 5 TXRX, 6 TXEN (in), 7 RXEN (in), 8 PDET (out), 9 MODE (in), 10 SWANT (in), 11 GND, 12 ANTB, 13 GND, 14 ANTA, 15 IND, 16 DNC, 17 DNC, 18 VDD1 (power), 19 GND, 20 VDD2 (power)

## RPot_1K
designator R?  value 1K  (hidden comment: RPot_1K)
Potentiometer; Sim Note: Enter the Resistance value and the set point into parameter fields.; Set Position: 0.5; Published: 8-Jun-2000; LatestRevisionDate: 17-Jul-2002; LatestRevisionNote: Re-released for DXP Platform.; PackageReference: VR5; Publisher: Altium Limited; PackageDescription: Variable Resistor, Thru-Hole; 3 Leads
footprint VR5 (Thru-Hole; 3 Leads)
simulation model POT (Potentiometer)
pins: 1 TOP, 2 BOT, 3 TAP
1 alternate drawing of the same symbol

## RPot_1K_2.54MM
designator R?  value 1K  (hidden comment: RPot_1K_2.54MM)
Potentiometer; Sim Note: Enter the Resistance value and the set point into parameter fields.; Set Position: 0.5; Published: 8-Jun-2000; LatestRevisionDate: 17-Jul-2002; LatestRevisionNote: Re-released for DXP Platform.; PackageReference: VR5; Publisher: Altium Limited; PackageDescription: Variable Resistor, Thru-Hole; 3 Leads
footprint VR5 (Thru-Hole; 3 Leads)
simulation model POT (Potentiometer)
pins: 1 TOP, 2 BOT, 3 TAP
1 alternate drawing of the same symbol

## RPot_10K_off
designator R?  value 10K  (hidden comment: RPot_10K_off)
Potentiometer; Manufacturer: 东莞市恒质电子科技有限公司; Manufacturer No: WH-148; Note: 单连带开关; Supplier: 淘宝; Supplier_PN: https://item.taobao.com/item.htm?id=537869595536; SuppliersPartNumber: https://item.taobao.com/item.htm?id=537869595536
footprint Pot_With_Off
pins: 1 Off, 2 TAP, 3 Max, 4, 5
1 alternate drawing of the same symbol

## RPot_22K
designator R?  value 22K  (hidden comment: RPot_22K)
Potentiometer; Sim Note: Enter the Resistance value and the set point into parameter fields.; Set Position: 0.5; Published: 8-Jun-2000; LatestRevisionDate: 17-Jul-2002; LatestRevisionNote: Re-released for DXP Platform.; PackageReference: VR5; Publisher: Altium Limited; PackageDescription: Variable Resistor, Thru-Hole; 3 Leads; ComponentLink1URL: 'https://item.szlcsc.com/113012.html; SuppliersPartNumber: C111783
footprint VR5 (Thru-Hole; 3 Leads)
simulation model POT (Potentiometer)
pins: 1 TOP, 2 TAP, 3 BOT
1 alternate drawing of the same symbol

## RV_14D471K
designator RV?, comment value 470V  (hidden comment: 14D471K)
压敏电阻 470V varistor; Part Number: C8852; Manufacturer: RUILON; Supplier: LC; Supplier_PN: C111189; Pin Count: 2; MaxRating: 470V; Manufacturer No: 14D471K; PartType: TH
footprint RV_14D (Varistor 17mm x 7mm 470V)
pins: 1, 2

## SC189ZSKTRT
designator U?
IC REG BUCK SYNC 3.3V SOT23-5; Manufacturer: Semtech Corporation; Rating: IND; MaxRating: 6V; Manufacturer No: SC189ZSKTRT; Supplier: Digi-Key; PartType: SM; ROHS: True; Pin Count: 5; Supplier_PN: SC189ZSKCT-ND
footprint SOT23-5
3D model SOT23-5
pins: 1 VIN (power), 2 GND (power), 3 EN (in), 4 VOUT, 5 LX (power)

## SD103AWS
designator D?
DIODE Schottky 0.22V@1mA 40Vr; Manufacturer: SK; MaxRating: 40V; Part Number: SD103AWS; Manufacturer No: SD103AWS; Supplier: LC; Supplier_PN: C109204; PartType: SM; Pin Count: 2
footprint SOD-323FL-2N (SODFL, 2-Leads, Body 1.25x2.55mm, IPC Medium Density)
pins: 1 K, 2 A

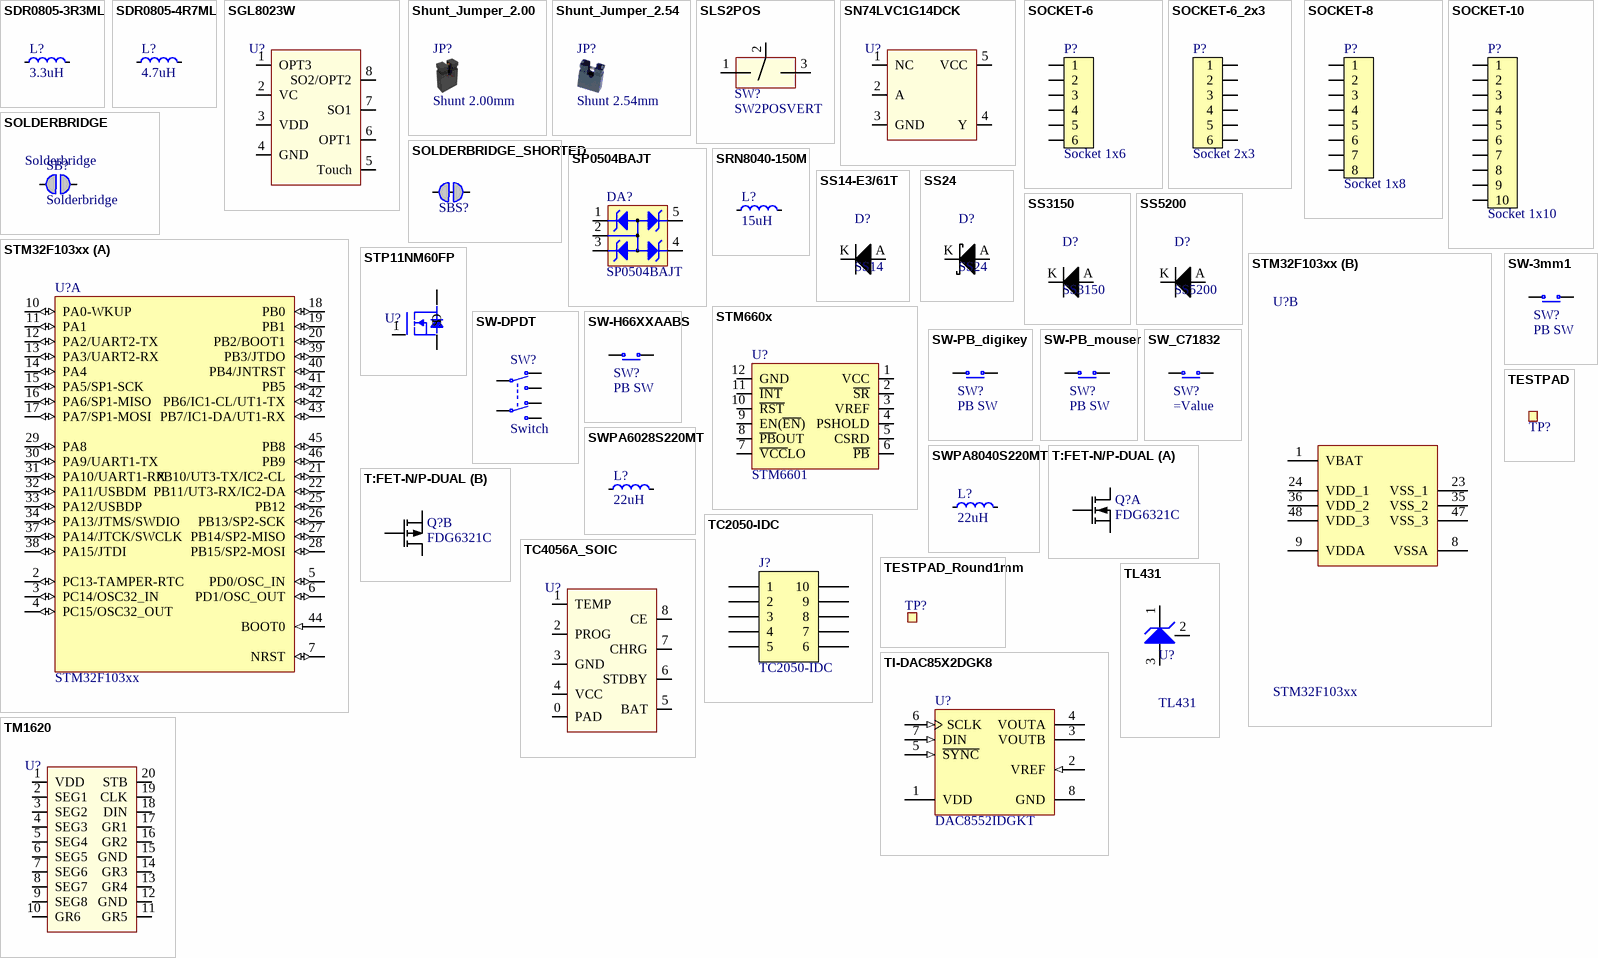
[diagram p6: symbols SDR0805-3R3ML to TM1620]

## SDR0805-3R3ML
designator L?, comment 3.3uH
IND SMD Power Inductors 3.3uH 4.5A rms; Manufacturer: BOURNS; Manufacturer No: SDR0805-3R3ML; Pin Count: 2; Supplier: Digi-Key; Supplier_PN: SDR0805-3R3MLTR-ND; Value: 3.3uH
footprint SDR0805 (SDR0805 Series - SMD Power Inductors BOURNS)
pins: 1, 2

## SDR0805-4R7ML
designator L?, comment 4.7uH
IND SMD Power Inductors 4.7uH 3.7A rms; Manufacturer: BOURNS; Manufacturer No: SDR0805-4R7ML; Pin Count: 2; Supplier: Digi-Key; Supplier_PN: SDR0805-4R7MLTR-ND; Value: 4.7uH
footprint SDR0805 (SDR0805 Series - SMD Power Inductors BOURNS)
pins: 1, 2

## SGL8023W
designator U?  (value not drawn)
LED灯光亮度调节及开关控制的单通道触摸芯片; Manufacturer: Sigma Micro; Manufacturer No: SGL8023W; Note: LED灯光亮度调节及开关控制的单通道触摸芯片; Pins: 8; Supplier: Sigma Micro; Supplier_PN: SGL8023W; SuppliersPartNumber: SGL8023W
footprint SO8-STX
pins: 1 OPT3, 2 VC, 3 VDD, 4 GND, 5 Touch, 6 OPT1, 7 SO1, 8 SO2/OPT2

## Shunt_Jumper_2.00
designator JP?, comment Shunt 2.00mm
SHUNT JUMPER .079" BLACK GOLD; Part Number: SHUNT JUMPER 2.00mm BLACK GOLD; Manufacturer: Sullins Connector Solutions; Manufacturer Part Number: SPN02SXCN-RC; Note: SHUNT JUMPER .079" BLACK GOLD, h=4.50mm, w=4.00mm; Artikkelnr Noca: 56099002; Datasheet: http://www.sullinscorp.com/drawings/275_SXCN_11504.pdf; Footprint: SHUNT JUMPER 2.00mm; LatestRevisionDate: 2012-07-06; Publisher: Nordic Semiconductor; Published: 2012-07-06; Value: Shunt 2.00mm; Supplier: Digi-Key; Supplier part number: S9339-ND; 2nd source Supplier: *; 2nd source part number: *
footprint Shunt_2.00mm

## Shunt_Jumper_2.54
designator JP?, comment Shunt 2.54mm
SHUNT JUMPER .1" BLACK GOLD; Part Number: SHUNT JUMPER 2.54mm BLACK GOLD; Manufacturer: 3M; Manufacturer Part Number: 969102-0000-DA; Note: SHUNT JUMPER .1" BLACK GOLD, h=6.00mm, w=5.00mm; Artikkelnr Noca: 56099001; Datasheet: http://www.digikey.com/product-detail/en/969102-0000-DA; Footprint: SHUNT JUMPER 2.54mm; LatestRevisionDate: 2012-07-06; Publisher: Nordic Semiconductor; Published: 2012-07-06; Value: Shunt 2.54mm; Supplier: Digi-Key; Supplier part number: 3M9580-ND; 2nd source Supplier: *; 2nd source part number: *

## SLS2POS
designator SW?, comment SW2POSVERT
SWITCH SLIDE SPDT 250MA 125V VER TH; Part Number: SLS2POS; Manufacturer: TE Connectivity; Manufacturer No: 1825115-1; Rating: IND; Supplier: Digi-Key; Supplier_PN: 450-1598-ND; PartType: TH; ROHS: True; Pin Count: 3
footprint PCM12SMTR
pins: 1, 2, 3

## SN74LVC1G14DCK
designator U?  (value not drawn)
Single Schmitt-Trigger Inverter, 1.65V-6.5V 4.6ns,; Manufacturer: TI; Manufacturer No: SN74LVC1G14DCK; Note: Single Schmitt-Trigger Inverter, 1.65V-6.5V 4.6ns,; Pins: 5; Supplier: LC; Supplier_PN: C35740; SuppliersPartNumber: C35740
footprint SC70-5
pins: 1 NC, 2 A, 3 GND, 4 Y, 5 VCC

## SOCKET-6
designator P?, comment Socket 1x6
Socket 1x6, 2.54mm (100mil), SMD; Part Number: Socket 1x6 SMD; Manufacturer: WCON; Manufacturer Part Number: 2171-106MS0CUNR1; 2nd source part number: SSM-106-F-SV-P-TR; Artikkelnr Noca: 55030001; Artikkelnr Simpro: N.A.; Datasheet: *; Footprint Doc: SOCKET_1x6_SMD; LatestRevisionDate: 2016-01-22; Pin Count: 6; Publisher: Nordic Semiconductor; Published: 2016-01-22; Value: Socket 1x6; Note: *; Supplier: Cabcon; Supplier part number: 2171-106MS0CUNR1; 2nd source Supplier: Samtec
footprint SOCKET_1x6_SMD
pins: 1, 2, 3, 4, 5, 6

## SOCKET-6_2x3
designator P?, comment Socket 2x3
Socket 2x3, 2.54mm (100mil), SMD; Part Number: Socket 2x3 SMD Bottom; Manufacturer: Samtec; Manufacturer Part Number: SSM-103-F-DV-P-TR; 2nd source part number: S5712-ND; Note: Not mounted; Artikkelnr Noca: 55019255; Artikkelnr Simpro: N.A.; Datasheet: http://www.samtec.com/documents/webfiles/pdf/SSM_SM.PDF; LatestRevisionDate: 2014-06-10; Pin Count: 6; Publisher: Nordic Semiconductor; Published: 2014-06-10; Value: Socket 2x3; Supplier: Samtec; Supplier part number: SSM-103-F-DV-P-TR; 2nd source Supplier: Digi-Key; Footprint Doc: SOCKET_2x3_SMD-2.54mm-bottom
footprint SOCKET_2x3_SMD-2.54mm-bottom
pins: 1, 2, 3 (power), 4 (power), 5 (power), 6 (power)

## SOCKET-8
designator P?, comment Socket 1x8
Socket 1x8, 2.54mm (100mil), SMD; Part Number: Socket 1x8 SMD; Manufacturer: WCON; Manufacturer Part Number: 2171-108MS0CUNR1; 2nd source part number: SSM-108-F-SV-P-TR; Artikkelnr Noca: 55030002; Artikkelnr Simpro: N.A.; Datasheet: *; Footprint Doc: SOCKET_1x8_SMD; LatestRevisionDate: 2016-01-22; Pin Count: 8; Publisher: Nordic Semiconductor; Published: 2016-01-22; Value: Socket 1x8; Note: *; Supplier: Cabcon; Supplier part number: 2171-108MS0CUNR1; 2nd source Supplier: Samtec
footprint SOCKET_1x8_SMD
pins: 1, 2, 3, 4, 5, 6, 7, 8

## SOCKET-10
designator P?, comment Socket 1x10
Socket 1x10, 2.54mm (100mil), SMD; Part Number: Socket 1x10 SMD; Manufacturer: WCON; Manufacturer Part Number: 2171-110MS0CUNR1; 2nd source part number: SSM-110-F-SV-P-TR; Artikkelnr Noca: 55030004; Artikkelnr Simpro: N.A.; Datasheet: *; Footprint Doc: SOCKET_1x10_SMD; LatestRevisionDate: 2016-01-22; Pin Count: 10; Publisher: Nordic Semiconductor; Published: 2016-01-22; Value: Socket 1x10; Note: *; Supplier: Cabcon; Supplier part number: 2171-110MS0CUNR1; 2nd source Supplier: Samtec
footprint SOCKET_1x10_SMD
pins: 1, 2, 3, 4, 5, 6, 7, 8, 9, 10

## SOLDERBRIDGE
designator SB?, comment Solderbridge  (no BOM)
Artikkelnr Noca: N.A.; Part Number: Solderbridge; Manufacturer: *; Manufacturer Part Number: *; Datasheet: *; Footprint: Solderbridge; LatestRevisionDate: 2009-12-14; Pin Count: 2; Publisher: Nordic Semiconductor; Published: 2009-12-14; Note: *; Supplier: *; Supplier part number: *; 2nd source Supplier: *; 2nd source part number: *; Value: Solderbridge
footprint Solderbridge
pins: 1 0, 2 1

## SOLDERBRIDGE_SHORTED
designator SBS?, comment SolderbridgeShorted  (value not drawn)  (net tie, no BOM)
Shorted Solderbridge; MaxRating: 0.5A; Part Number: Solderbridge Shorted; Manufacturer: N/A; Manufacturer No: N/A; LatestRevisionDate: 2012-08-07; Pin Count: 2; Value: SolderbridgeShorted; Supplier: PCB; Supplier_PN: N/A; Footprint Doc: Solderbridge_Shorted
footprint Solderbridge_Shorted
pins: 1, 2

## SP0504BAJT
designator DA?
ESD SEMI TVS Avalanch Diode Vrev:+5V5 SP0504BAJT SC70-5; Manufacturer: LittleFuse; Manufacturer No: SP0504BAJTG; Part Number: SP0504BAJT; Supplier: Digi-key; Supplier_PN: F3159CT-ND; Pin Count: 5; PartType: SM
footprint SC70-5
3D model SC70-5 (PCB3D Model)
pins: 1 k1, 2 a2, 3 k3, 4 k4, 5 k5

## SRN8040-150M
designator L?, comment 15uH
SRN8040 Series 15uH 20%tol QF15 70mOhm 2.4AIrms 2.7AIsat; Part Number: *; Manufacturer: *; Manufacturer Part Number: *; Footprint: 8080; Pin Count: 2; Note: *; Supplier: *; Supplier_PN: SRN8040-150MCT-ND; Value: 15uH
footprint SRN8040-150M (SRN8040 Series - Semi-shielded Power Inductors)
pins: 1, 2

## SS14-E3/61T
designator D?, comment SS14
DIODE Schottky 40V反向  350mV@2A SMA; Part Number: SS14-E3/61T; Manufacturer: Vishay; MaxRating: 40V; Manufacturer No: SS14-E3/61T; Supplier: LC; Supplier_PN: C47460; PartType: SM; ROHS: True; Pin Count: 2
footprint SMA-DIODE
3D model SMA-DIODE
pins: A, K

## SS24
designator D?
DIODE SCHOTTKY 40V 2A DO214AA; Manufacturer: Fairchild Semiconductor; Part Number: SS24; Manufacturer No: SS24; Supplier: LC; Supplier_PN: SS24FSCT-ND; PartType: SM; ROHS: True; Pin Count: 2; MaxRating: 40V; SuppliersPartNumber: C64881
footprint SMB-DIODE-DO214AA (2Leads, SMB, JEDEC, DO214 VARIATION AA)
pins: A, K

## SS3150
designator D?
DIODE SCHOTTKY 150V 3A DO214AA; Manufacturer: Fairchild Semiconductor; Part Number: SS3150; Manufacturer No: SS3150; Supplier: LC; Supplier_PN: C65003; PartType: SM; ROHS: True; Pin Count: 2; MaxRating: 150V; SuppliersPartNumber: C47124
footprint SMB-DIODE-DO214AA (2Leads, SMB, JEDEC, DO214 VARIATION AA)
pins: A, K

## SS5200
designator D?
DIODE SCHOTTKY 200V 5A SMC; Manufacturer: Fairchild Semiconductor; MaxRating: 150V; Part Number: SS5200; Manufacturer No: SS5200; Supplier: LC; Supplier_PN: C43515; PartType: SM; ROHS: True; Pin Count: 2; SuppliersPartNumber: C43515
footprint SMB-DIODE-DO214AA (2Leads, SMB, JEDEC, DO214 VARIATION AA)
pins: A, K

## STM32F103xx
designator U?
ARM; ComponentLink1Description: 供应商链接; ComponentLink1URL: http://www.szlcsc.com/product/details_9243.html; Package: LQFP-48_7x7x05P; Supplier: LC; SuppliersPartNumber: C8734
footprint LQFP-48_7x7x05P
part A pins: 2 PC13-TAMPER-RTC (io), 3 PC14/OSC32_IN (io), 4 PC15/OSC32_OUT (io), 5 PD0/OSC_IN (io), 6 PD1/OSC_OUT (io), 7 NRST (io), 10 PA0-WKUP (io), 11 PA1 (io), 12 PA2/UART2-TX (io), 13 PA3/UART2-RX (io), 14 PA4 (io), 15 PA5/SP1-SCK (io), 16 PA6/SP1-MISO (io), 17 PA7/SP1-MOSI (io), 18 PB0 (io), 19 PB1 (io), 20 PB2/BOOT1 (io), 21 PB10/UT3-TX/IC2-CL (io), 22 PB11/UT3-RX/IC2-DA (io), 25 PB12 (io), 26 PB13/SP2-SCK (io), 27 PB14/SP2-MISO (io), 28 PB15/SP2-MOSI (io), 29 PA8 (io), 30 PA9/UART1-TX (io), 31 PA10/UART1-RX (io), 32 PA11/USBDM (io), 33 PA12/USBDP (io), 34 PA13/JTMS/SWDIO (io), 37 PA14/JTCK/SWCLK (io), 38 PA15/JTDI (io), 39 PB3/JTDO (io), 40 PB4/JNTRST (io), 41 PB5 (io), 42 PB6/IC1-CL/UT1-TX (io), 43 PB7/IC1-DA/UT1-RX (io), 44 BOOT0 (in), 45 PB8 (io), 46 PB9 (io)
part B pins: 1 VBAT (power), 8 VSSA (power), 9 VDDA (power), 23 VSS_1 (power), 24 VDD_1 (power), 35 VSS_2 (power), 36 VDD_2 (power), 47 VSS_3 (power), 48 VDD_3 (power)

## STM660x
designator U?, comment STM6601
IC SUPERVISOR 3.3V 12TDFN; Manufacturer: STMicroelectronics; Manufacturer No: STM6601CQ2BDM6F; Part Number: STM6601CQ2BDM6F-EN-3V3; Rating: COM; Supplier: Digi-Key; Supplier_PN: 497-10133-1-ND; PartType: SM; ROHS: True; Pin Count: 12
footprint TDFN12 (TDFN12(2X3mm))
pins: 1 VCC, 2 ~{SR}, 3 VREF, 4 PSHOLD, 5 CSRD, 6 ~{PB}, 7 ~{VCC}LO, 8 ~{PB}OUT, 9 EN(~{EN}), 10 ~{RST}, 11 ~{INT}, 12 GND

## STP11NM60FP
designator U?  (value not drawn)
N-CHANNEL power MOSFET, 600V, 11A, 450mΩ @VGS = 10V; Manufacturer: ST; Note: N-CHANNEL LogicLevel PowerTrench MOSFET, 30V, 100A, 4mΩ @VGS = 10V; Manufacturer No: STP11NM60FP; Pins: 3; Supplier: LC; Supplier_PN: C10644
footprint TO-220-3 (3-Lead FairChild Power Series)
pins: 1 G, 2 D, 3 S

## SW-3mm1
designator SW?, comment PB SW
SWITCH TACTILE SPST-NO 3.1mm x 3.1mm; Part Number: K2-1177SW-A4DW-06; Manufacturer: 韩荣; Note: 按键开关; Pin Count: 2; Value: PB SW; Supplier: LC; Manufacturer No: K2-1177SW-A4DW-06; Supplier_PN: C128946
footprint K2-1177SW-A4DW-06 (90 degree press switch)
pins: 1 N.O, 2 COM

## SW-DPDT
designator SW?, comment Switch
SMD slide Switch (ON-ON); Part Number: JS202011SCQN; Manufacturer: C&K Components; 2nd source part number: 232-0019; Artikkelnr Noca: N.A.; Manufacturer Part Number: JS202011SCQN; Datasheet: http://www.ck-components.com/14398/js_14july11.pdf/; LatestRevisionDate: 2014-06-24; Pin Count: 6; Publisher: Nordic Semiconductor; Published: 2014-06-24; Value: Switch; Note: *; Supplier: Digi-Key; Supplier part number: 401-2002-1-ND; 2nd source Supplier: Farnell; Footprint Doc: JS202011SCQN; Artikkelnr Simpro: N.A.
footprint JS202011SCQN (Slide Switches - DPDT, SMD, ON-ON)
pins: 1 N.O-1, 2 COM-1, 3 N.C-1, 4 N.O-2, 5 COM-2, 6 N.C-2

## SW-H66XXAABS
designator SW?, comment PB SW
SWITCH TACTILE SPST-NO 0.05A 24V; Part Number: H6660AABS; Manufacturer: 领高电子; Note: 按键开关; Pin Count: 3; Value: PB SW; Supplier: 领高电子; Manufacturer No: H6660AABS; Supplier_PN: H6660AABS
footprint H66XXAABS (90 degree press switch)
pins: 1 N.O, 2 COM

## SW-PB_digikey
designator SW?, comment PB SW
SWITCH TACTILE SPST-NO 0.05A 24V; Part Number: FSM1LPTR; Manufacturer: TE Connectivity; Note: 按键开关; Pin Count: 4; Value: PB SW; Supplier: Digi-Key; Manufacturer No: FSM1LPTR; Supplier_PN: 450-1756-1-ND
footprint ALPS_SKHUxxx010_WO_GND
pins: 1 N.O, 2 COM

## SW-PB_mouser
designator SW?, comment PB SW
ALPS - SKHUALE010 - Tactile Switch, SPNO, SMD, 6.5x6.2x2.5mm; Part Number: ALPS_SKHUALE010; 2nd source part number: 688-SKHUALE010; Artikkelnr Noca: 50019001; Artikkelnr Simpro: N.A.; Manufacturer: Alps; Manufacturer Part Number: SKHUALE010; Datasheet: https://www1.elfa.se/data1/wwwroot/webroot/Z_DATA/03579000.pdf; LatestRevisionDate: 2010-02-01; Pin Count: 4; Publisher: Nordic Semiconductor; Published: 2010-02-01; Note: *; Supplier: Mouser; Supplier part number: 35-790-00; 2nd source Supplier: Mouser; Footprint Doc: ALPS_SKHUxxx010_WO_GND; Value: PB SW
footprint ALPS_SKHUxxx010_WO_GND
pins: 1 N.O, 2 COM

## SW_C71832
designator SW?
switch 6x6x9支架环保耐温复银260g; Part Number: C71832; Manufacturer: BBJ; Manufacturer No: 6x6x9; Note: 侧按键开关; Pin Count: 4; Supplier: LC; Supplier_PN: C71832
footprint H66XXAABS (90 degree press switch)
pins: 1 N.O, 2 COM

## SWPA6028S220MT
designator L?, comment 22uH
IND SMD Power Inductors 22uH 1.45A; Manufacturer: Sunlord 顺络; Manufacturer Part Number: SWPA6028S220MT; Pin Count: 2; Supplier: LC; Supplier part number: C51349; Value: 22uH
footprint NR6028T220M (SMD power inductor NR series TAIYO YUDEN)
pins: 1, 2

## SWPA8040S220MT
designator L?, comment 22uH
IND SMD Power Inductors 22uH 2.4A; Manufacturer: Sunlord 顺络; Manufacturer No: SWPA8040S220MT; Pin Count: 2; Supplier: LC; SuppliersPartNumber: C15857; Value: 22uH; Supplier_PN: C15857
footprint INDC8282X42N (Chip Inductor, 2-Leads, Body 8.15x8.15mm, IPC Medium Density)
pins: 1, 2